# EAGLE library part 615008142521 (library WR-MJ)
WR-MJ Cat 3 Modular Jacks – THT Characteristics Shieldingless and Shielded with EMI-Spring option Optional LEDs in various sequences Vertical and Horizontal orientation Stacked and assembled configurations Tray Packaging Properties PoE++ Compatible up to 100W (IEEE 802.3bt) UL and cULus-Certified UL94-V0 insulator material Ethernet Category 3 – Category 5 under conditions Applications Networks Internet of Things mart Buildings <https://www.we-online.com/components/media/o863419v209%20multi-WR-MJTH-615002138421.jpg> Details see: www.we-online.com/en/components/products/WR_MJ_MODULAR_JACKS_THT <www.we-online.com/catalog/WR_MJ_MODULAR_JACKS_THT/?utm_source=eagle_model&utm_medium=description_link&utm_campaign=eisos_eagle> Updated by Yingchun Shan 2020-01-06 2020(C) Würth Elektronik
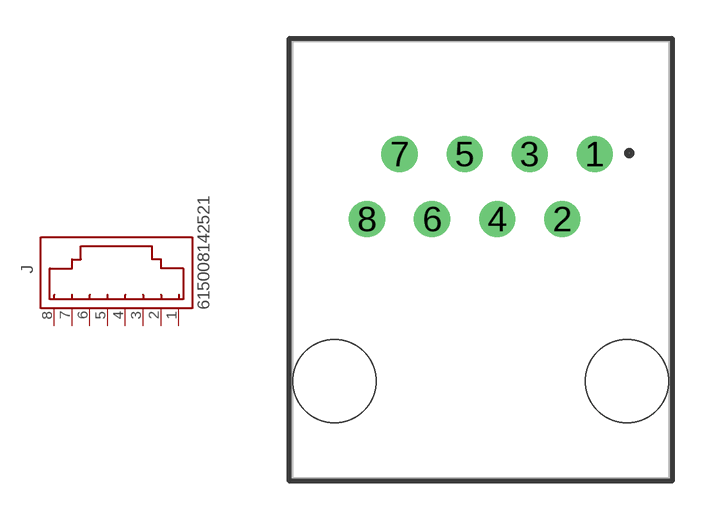
[diagram p5: symbol with the pads of 615008142521; footprint 615008142521]

Designator prefix J

## 615008142521 (APPLICATION-SYSTEM: CAT 3; DATASHEET-URL: https://www.we-online.com/redexpert/spec/615008142521?ae; EMI: No; LED: /; MOUNT: THT; PART-NUMBER: 615008142521; SIZE: Angled; VALUE: 615008142521; XPXC: 8P8C)  [615008142521]
1  1  pas
2  2  pas
3  3  pas
4  4  pas
5  5  pas
6  6  pas
7  7  pas
8  8  pas

## Footprint 615008142521 (pad centres in mm)
WR-MJ Modular Jack 45° Plastic 8P8C
drill 0.9: 1 4.445,4.135; 2 3.175,1.595; 3 1.905,4.135; 4 0.635,1.595; 5 -0.635,4.135; 6 -1.905,1.595; 7 -3.175,4.135; 8 -4.445,1.595
hole 3.25 at -5.715,-4.755
hole 3.25 at 5.715,-4.755